# Altium schematic symbol library Test_Point.Schlib: 1 symbol
Pins are listed as number, name and electrical type; pins without a type are passive.

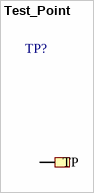
[diagram p0: symbol Test_Point]

## Test_Point
designator TP?  (no BOM)
Test Point
pins: 1 TP